# Altium footprint library Cinch.PcbLib: 3 footprints
Each footprint in its own frame and in the unit in brackets; x right, y up, seen from the top. Pads: shape width x height; smd on the part's side, far side on the other; paste and mask are expansions set on the pad; w line width, h text height; cw(c..) or ccw(c..) is an arc to the next point about the centre after c.
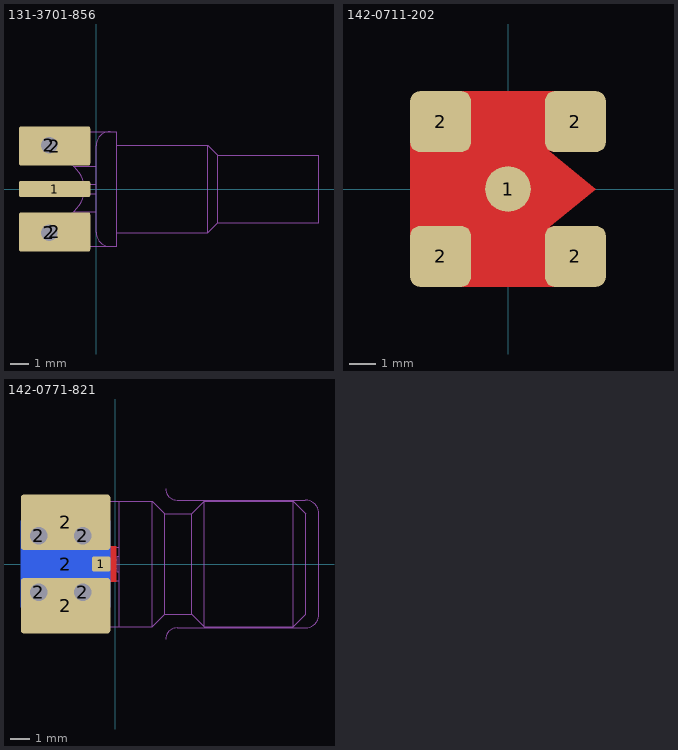
[diagram p0: the footprints below, top view; thin cyan lines are the x and y axes]

## 131-3701-856 [mil] "SMB, END LAUNCH BULKHEAD"
pads (5):
  rrect20% 155x35 smd mask+2: 1(-90,0)
  round 60 hole 36: 2(-102,-95) 2(-102,95)
  rrect10% 155x85 smd mask+2: 2(-90,-93.5) 2(-90,93.5)
Top 3D Body (Mech16):
  circle w1: c-102,95 r17
  circle w1: c-102,-95 r17
  lines w1: -50,-50 0,-50 ; -50,50 0,50 ; 0,-10 -155,-10 -155,10 0,10 ; 31,-125 cw(c31,-94) 0,-94 0,94 cw(c31,94) 31,125 ; 45,-95 243,-95 ; 45,95 243,95 ; 243,-95 243,95 ; 243,-95 265,-73 ; 243,95 265,73 ; 265,-73 265,73 ; 265,-73 485,-73 485,73 265,73 ; -155,-125 45,-125 45,125 -155,125 -155,62 -87,62 cw(c-87,0) -87,-62 -155,-62 -155,-125

## 142-0711-202 [mil]
pads (5):
  round 68 smd mask+2: 1(0,0)
  rrect30% 90x90 smd paste-2 mask+2: 2(-100,-100) 2(-100,100) 2(100,-100) 2(100,100)
Top Layer:
  region: 100,100 100,145 -100,145 -100,100
  region: -100,100 -145,100 -145,-100 -100,-100
  region: -100,-100 -100,-145 100,-145 100,-100
  pour cut-out: -90,90 -90,-90 20,-90 130,0 20,90
  lines w38: 66.91,-74.31 cw(c0,0) 66.91,74.31
Top Solder:
  region: 70,-147 70,-100 -70,-100 -70,-147
  region: -70,147 -70,100 70,100 70,147
  lines w42: -66.91,-74.31 ccw(c0,0) 66.91,-74.31 ; -66.91,74.31 cw(c0,0) 66.91,74.31
Top 3D Body (Mech16):
  circle w1: c0,0 r81
  lines w1: -125,-125 125,-125 ; -125,-125 -125,125 ; -125,-125 -62,-125 -62,-62 -125,-62 -125,-125 ; -125,125 -125,62 -62,62 -62,125 -125,125 ; 125,-125 125,-62 62,-62 62,-125 125,-125 ; 62,62 125,62 125,125 62,125 62,62
3D body "User Library-SMA_132134.STEP": height 344.09, standoff 0, extent -124.99,-124.99 125.01,125

## 142-0771-821 [mil] "SMA Connector"
pads (8):
  rrect20% 36x30 smd mask+2: 1(-28,0)
  round 50 hole 35: 2(-152,-56.5) 2(-152,56.5) 2(-65,-56.5) 2(-65,56.5)
  rrect10% 178x110 smd mask+2: 2(-99,-83) 2(-99,83)
  rrect10% 178x185 smd far side mask+2: 2(-99,0)
Top Layer:
  pour cut-out: 2,-35 -43,-35 -78,0 -43,35 2,35
Top Component Outline:
  circle w1: c-152,-56.5 r16
  circle w1: c-65,-56.5 r16
  circle w1: c-65,56.5 r16
  circle w1: c-152,56.5 r16
  lines w1: 4,-8 -26,-8 -26,8 4,8 ; 8,-125 8,125 ; 8,-33 -175,-33 -175,-125 73,-125 ; 8,-15 4,-15 4,15 8,15 ; 8,33 -175,33 -175,125 73,125 ; 99.99,-150 cw(c122.99,-150) 122.99,-127 377.99,-127 ccw(c377.99,-100) 404.99,-100 404.99,100 ccw(c377.99,100) 377.99,127 122.99,127 cw(c122.99,150) 99.99,150 ; 73,-125 98,-100 ; 73,-125 73,125 ; 73,125 98,100 ; 98,-100 152,-100 ; 98,-100 98,100 ; 98,100 152,100 ; 152,-100 152,100 ; 152,-100 177,-125 ; 152,100 177,125 ; 177,-125 354,-125 ; 177,-125 177,125 ; 177,125 354,125 ; 354,-125 379,-100 379,100 354,125 ; 354,-125 354,125
3D body "dr-3d-CSS-JOHN-142-0771-821.stp": height 125, standoff -125, extent -175,-124.99 379,124.99